# Altium footprint library molex.PcbLib: 1 footprints
Each footprint in its own frame and in the unit in brackets; x right, y up, seen from the top. Pads: shape width x height; smd on the part's side, far side on the other; paste and mask are expansions set on the pad; w line width, h text height; cw(c..) or ccw(c..) is an arc to the next point about the centre after c.
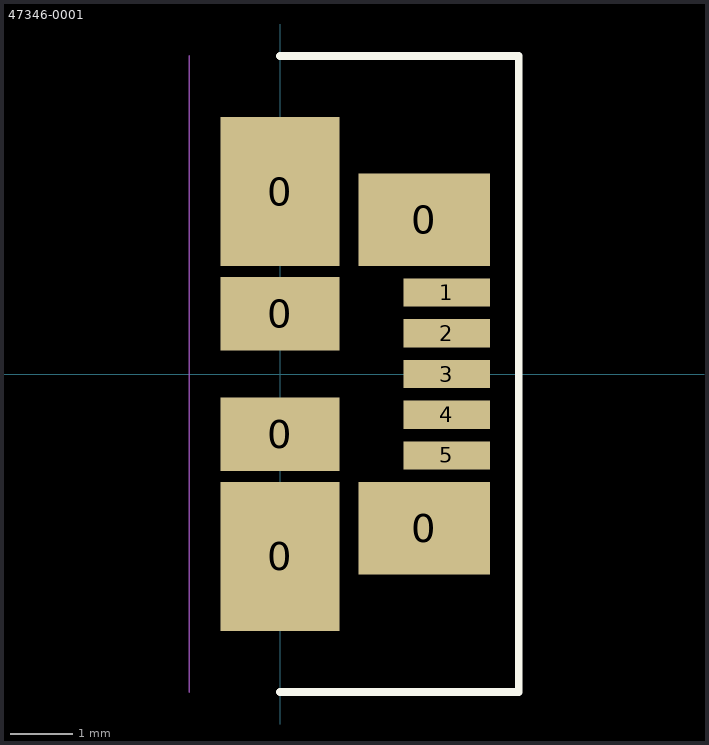
[diagram p0: the footprint, top view; thin cyan lines are the x and y axes]

## 47346-0001 [mm] "USB Micro-B Receptacle"
pads (11):
  rect 1.9x2.375 smd: 0(0,-2.913) 0(0,2.913)
  rect 1.9x1.175 smd: 0(0,-0.962) 0(0,0.962)
  rect 2.1x1.475 smd: 0(2.3,-2.462) 0(2.3,2.462)
  rect 1.38x0.45 smd: 1(2.66,1.3) 2(2.66,0.65) 3(2.66,0) 4(2.66,-0.65) 5(2.66,-1.3)
Top Overlay:
  lines w0.127: 0,-5.08 3.81,-5.08 3.81,5.08 0,5.08
Mechanical 1:
  lines w0.025: -1.45,-5.08 -1.45,5.08
3D body: height 2.72, standoff -0.22, extent -2.001,-3.99 3.429,3.99